# Altium footprint library RLS397.PcbLib: 1 footprints
Each footprint in its own frame and in the unit in brackets; x right, y up, seen from the top. Pads: shape width x height; smd on the part's side, far side on the other; paste and mask are expansions set on the pad; w line width, h text height; cw(c..) or ccw(c..) is an arc to the next point about the centre after c.
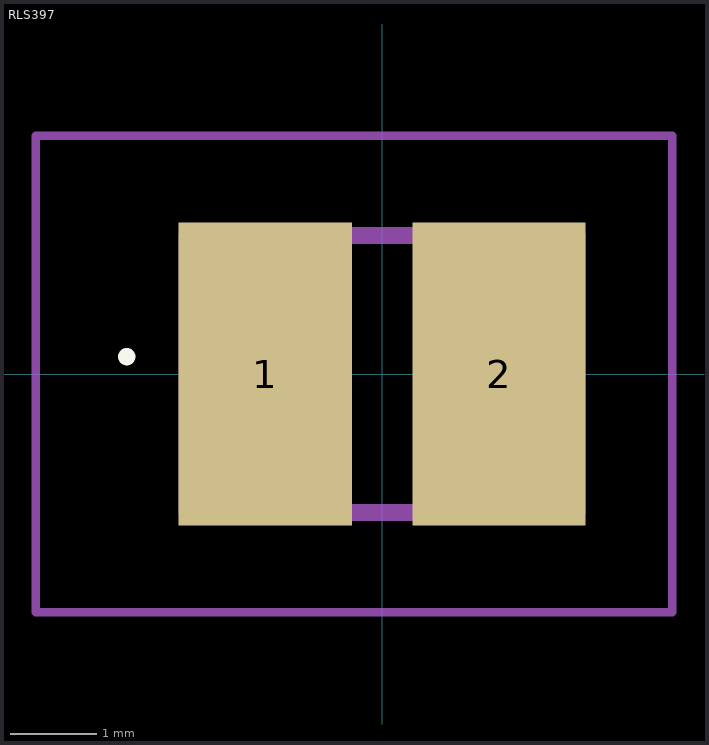
[diagram p0: the footprint, top view; thin cyan lines are the x and y axes]

## RLS397 [mm]
pads (2):
  rect 2x3.5 smd: 1(-1.35,0) 2(1.35,0)
Top Overlay:
  lines w0.1: -3,0.2 -3,0.2 ; -3,0.2 ccw(c-2.95,0.2) -2.9,0.2 ; -3,0.2 cw(c-2.95,0.2) -2.9,0.2 ; -2.9,0.2 -2.9,0.2
Mechanical 15:
  lines w0.2: -2.25,-1.6 2.25,-1.6 2.25,1.6 -2.25,1.6 -2.25,-1.6
Mechanical 20:
  lines w0.1: -4,-2.75 3.35,-2.75 3.35,2.75 -4,2.75 -4,-2.75